# Altium footprint library Elreg_Sender.PcbLib: 48 footprints (part 1 of 3)
Each footprint in its own frame and in the unit in brackets; x right, y up, seen from the top. Pads: shape width x height; smd on the part's side, far side on the other; paste and mask are expansions set on the pad; w line width, h text height; cw(c..) or ccw(c..) is an arc to the next point about the centre after c.
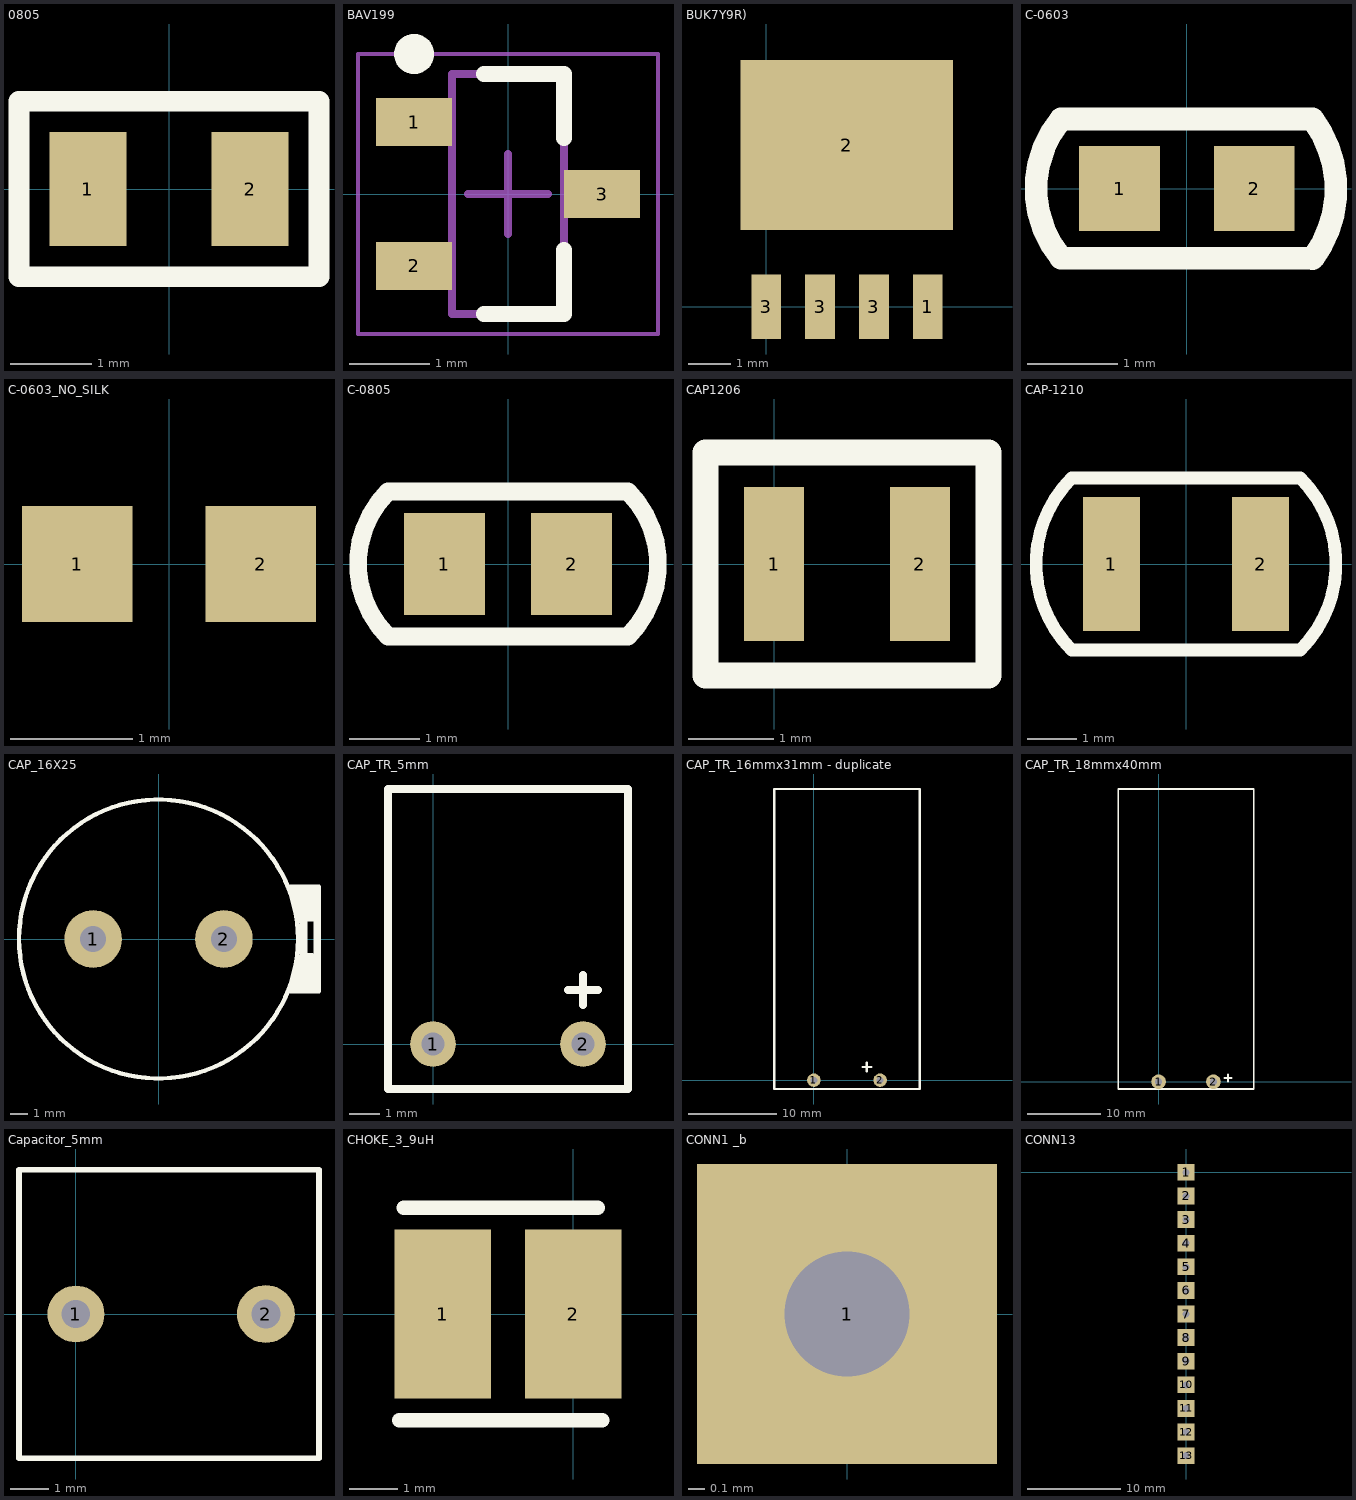
[diagram p0: the footprints below, top view; thin cyan lines are the x and y axes]

## 0805 [mm] "SMD, 0805"
height 0.55
pads (2):
  rect 0.95x1.4 smd: 1(-1,0) 2(1,0)
Top Overlay:
  lines w0.254: -1.85,-1.08 -1.85,1.08 1.85,1.08 1.85,-1.08 -1.85,-1.08
3D body: height 0.45, standoff 0, extent -1,-0.62 1,0.63

## BAV199 [mm] "SOT23, 3-Leads, Body 2.90x2.40mm, Pitch 0.90mm, IPC Medium Density"
height 1
pads (3):
  rect 0.95x0.6 smd: 1(-1.175,0.9) 2(-1.175,-0.9) 3(1.175,0)
Top Overlay:
  circle w0.25: c-1.175,1.75 r0.125
  lines w0.2: -0.3,-1.5 0.7,-1.5 0.7,-0.7 ; -0.3,1.5 0.7,1.5 0.7,0.7
Mechanical 13:
  lines w0.1: -0.7,-1.5 -0.7,1.5 0.7,1.5 0.7,-1.5 -0.7,-1.5
Mechanical 15:
  lines w0.05: -1.875,-1.75 -1.875,1.75 1.875,1.75 1.875,-1.75 -1.875,-1.75
  lines w0.1: -0.5,0 0.5,0 ; 0,-0.5 0,0.5
3D body: height 1, standoff 0.01, extent -0.7,-1.5 0.7,1.5

## BUK7Y9R) [mm] "MOS FET"
height 1.1
pads (5):
  rect 0.7x1.524 smd: 1(3.81,0) 3(0,0) 3(1.27,0) 3(2.54,0)
  rect 5x4 smd: 2(1.9,3.81)

## C-0603 [mm] "Capacitors 0603"
height 0.6
pads (2):
  rect 0.9x0.95 smd: 1(-0.75,0) 2(0.75,0)
Top Overlay:
  lines w0.254: 1.4,-0.78 ccw(c0.375,-0.005) 1.4,0.77 ; 1.4,-0.775 -1.4,-0.775 cw(c-0.467,0) -1.4,0.775 1.4,0.775
3D body: height 0.86, standoff 0, extent -0.8,-0.4 0.8,0.4

## C-0603_NO_SILK [mm] "Capacitors 0603"
height 0.6
pads (2):
  rect 0.9x0.95 smd: 1(-0.75,0) 2(0.75,0)
3D body: height 0.86, standoff 0, extent -0.8,-0.4 0.8,0.4

## C-0805 [mm] "0805"
height 0.7
pads (2):
  rect 1.15x1.45 smd: 1(-0.9,0) 2(0.9,0)
Top Overlay:
  lines w0.254: -1.7,-1.025 cw(c-0.675,0) -1.7,1.025 1.7,1.025 cw(c0.675,0) 1.7,-1.025 -1.7,-1.025
3D body: height 0.78, standoff 0, extent -1,-0.625 1,0.625

## CAP1206 [mm]
pads (2):
  rect 0.7x1.8 smd: 1(0,0) 2(1.7,0)
Top Overlay:
  lines w0.3: -0.8,-1.3 -0.8,1.3 2.5,1.3 2.5,-1.3 -0.8,-1.3

## CAP-1210 [mm] "Capacitors, SMD, 1210"
height 1.4
pads (2):
  rect 1.15x2.7 smd: 1(-1.5,0) 2(1.5,0)
Top Overlay:
  lines w0.254: -2.3,-1.73 cw(c-0.57,0) -2.3,1.73 2.3,1.73 cw(c0.57,0) 2.3,-1.73 -2.3,-1.73
3D body: height 1.3, standoff 0, extent -1.6,-1.25 1.6,1.25

## CAP_16X25 [mm] "Polar Capacitors"
height 25
pads (2):
  round 3.302 hole 1.5: 1(-3.75,0) 2(3.75,0)
Top Overlay:
  circle w0.254: c0,0 r8
  lines w0.2: 8.4,1.1 8.9,1.1 9,1 ; 8.8,-2.8 8.8,-0.9 8.5,-0.9 ; 8.5,-2.9 8.5,-0.9 ; 8.5,-2.9 8.4,-3 8.5,-2.9 ; 8.5,-2.9 8.6,-2.9 8.7,-3 8.7,-1.1 8.5,-0.9
  lines w0.254: 7.416,-3 9.2,-3 9.2,3 7.416,3 ; 7.6,-3 7.6,-2.6 ; 7.6,2.6 7.6,3 ; 7.8,-3 7.8,-2 ; 7.8,2 7.8,3 ; 8,-3 8,-1 ; 8,1 8,3 ; 8.2,-3 8.2,3 ; 8.4,-3 8.4,3 ; 8.6,1.2 8.6,3 ; 8.8,1.2 8.8,3 ; 9,-3 9,3
3D body: height 25.01, standoff -2.7, extent -8,-8 7.941,8

## CAP_TR_5mm [mil]
pads (2):
  round 60 hole 30: 1(0,0) 2(196.85,0)
Top Overlay:
  lines w10: 177.17,70.87 216.54,70.87 ; 196.85,51.18 196.85,90.55 ; -59.06,-59.06 -59.06,334.65 255.91,334.65 255.91,-59.06 -59.06,-59.06

## CAP_TR_16mmx31mm - duplicate [mil]
pads (2):
  round 60 hole 30: 1(0,0) 2(295.28,0)
Top Overlay:
  lines w10: 216.54,59.05 255.91,59.05 ; 236.22,39.37 236.22,78.74 ; -177.17,-39.37 -177.17,1299.21 472.44,1299.21 472.44,-39.37 -177.17,-39.37

## CAP_TR_18mmx40mm [mm] "UPW1V472MHD   4700uF"
height 18
pads (2):
  round 2 hole 1: 1(0,0) 2(7.5,0)
Top Overlay:
  lines w0.254: -5.5,32.5 -5.5,40 -3.375,40 8.375,40 12.8,40 ; -5.5,33 -5.5,-1 13,-1 13,33 13,39 13,40 12.5,40 ; 9,0.5 10,0.5 ; 9.5,0 9.5,1

## Capacitor_5mm [mm]
height 13
pads (2):
  round 1.5 hole 0.75: 1(0,0)
  round 1.524 hole 0.762: 2(5,0)
Top Overlay:
  lines w0.152: -1.5,-3.8 6,-3.8 6.4,-3.8 6.4,3.8 -1.5,3.8 -1.5,-3.8

## CHOKE_3_9uH [mm]
height 2.6
pads (2):
  rect 2x3.5 smd: 1(-2.7,0) 2(0,0)
Top Overlay:
  lines w0.3: -3.6,-2.2 0.6,-2.2 ; -3.5,2.2 0.5,2.2

## CONN1 _b [mm]
pads (1):
  rect 1.8x1.8 hole 0.75: 1(0,0)

## CONN13 [mm]
pads (13):
  rect 1.8x1.8 hole 0.75: 1(0,0) 2(0,-2.54) 3(0,-5.08) 4(0,-7.62) 5(0,-10.16) 6(0,-12.7) 7(0,-15.24) 8(0,-17.78) 9(0,-20.32) 10(0,-22.86) 11(0,-25.4) 12(0,-27.94) 13(0,-30.48)